# Altium schematic symbol library 2-1761679-5.SchLib: 1 symbol
Pins are listed as number, name and electrical type; pins without a type are passive.

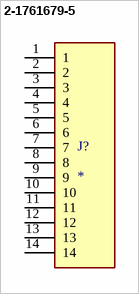
[diagram p0: symbol 2-1761679-5]

## 2-1761679-5
designator J?
MP: 2-1761679-5; MF: {'manufacturer': u'TE Connectivity'}; Availability: Unavailable; Package: None; Value: *; Price: None
footprint TE_2-1761679-5
pins: 1, 2, 3, 4, 5, 6, 7, 8, 9, 10, 11, 12, 13, 14